# Altium footprint library WURTH 691508110303.PCBLIB: 1 footprints
Each footprint in its own frame and in the unit in brackets; x right, y up, seen from the top. Pads: shape width x height; smd on the part's side, far side on the other; paste and mask are expansions set on the pad; w line width, h text height; cw(c..) or ccw(c..) is an arc to the next point about the centre after c.
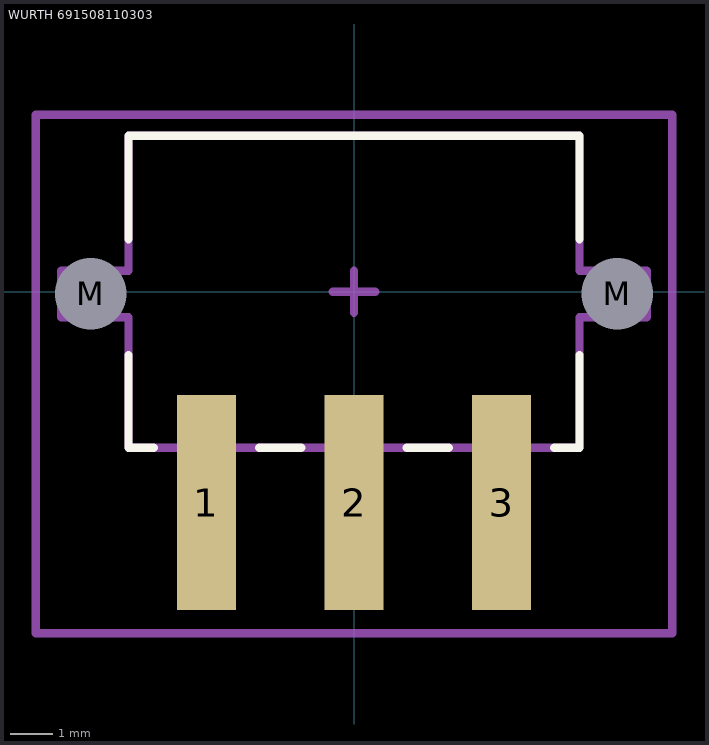
[diagram p0: the footprint, top view; thin cyan lines are the x and y axes]

## WURTH 691508110303 [mm]
height 11.2
pads (5):
  rect 1.4x5.1 smd: 1(-3.5,-5) 2(0,-5) 3(3.5,-5)
  round 1 hole 1.7 unplated: M(-6.25,-0.05) M(6.25,-0.05)
Top Overlay:
  lines w0.2: -5.35,-1.5 -5.35,-3.7 -4.75,-3.7 ; -5.35,1.25 -5.35,3.7 5.35,3.7 5.35,1.25 ; -2.25,-3.7 -1.25,-3.7 ; 1.25,-3.7 2.25,-3.7 ; 4.75,-3.7 5.35,-3.7 5.35,-1.5
Mechanical 1:
  lines w0.2: -6.95,-0.6 -5.35,-0.6 -5.35,-3.7 5.35,-3.7 5.35,-0.6 6.95,-0.6 6.95,0.5 5.35,0.5 5.35,3.7 -5.35,3.7 -5.35,0.5 -6.95,0.5 -6.95,-0.6
Mechanical 15:
  lines w0.2: -0.5,0 0.5,0 ; 0,-0.5 0,0.5 ; -7.55,-8.1 -7.55,4.2 7.55,4.2 7.55,-8.1 -7.55,-8.1
3D body "Wurth 691508110303.STEP": height 11.2, standoff -2, extent -6.925,-7.2 6.925,3.7